# EAGLE library part FT231XS-R (library FT231XS-R)
FTDI Chip FT231XS-R, Interface RS232, RS422, RS485, SIE, UART 3MBd, 5 V, 20-pin, SSOP Source: Datasheet <https://datasheet.datasheetarchive.com/originals/distributors/Datasheets_SAMA/824938d1687833d6997706543241551a.pdf>
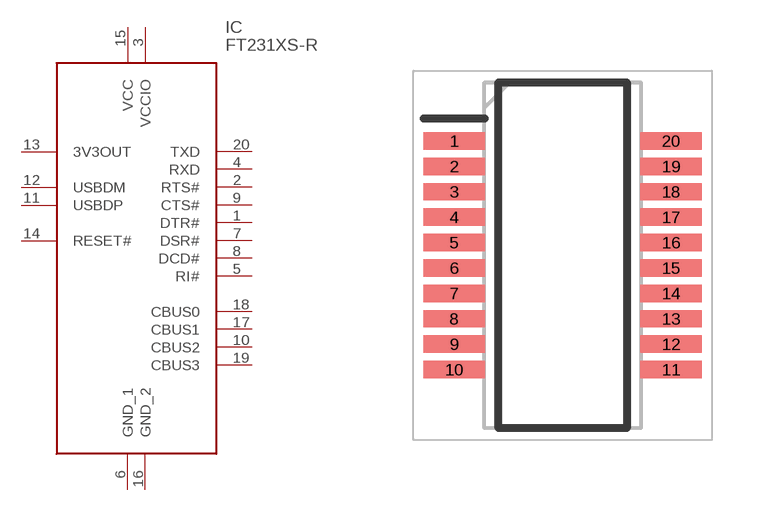
[diagram p0: symbol with the pads of SOP64P599X175-20N; footprint SOP64P599X175-20N]

Designator prefix IC

## FT231XS-R (Description: FTDI Chip FT231XS-R, Interface RS232, RS422, RS485, SIE, UART 3MBd, 5 V, 20-pin, SSOP; Height: 1.753mm; Manufacturer_Name: FTDI Chip; Manufacturer_Part_Number: FT231XS-R; Mouser_Part_Number: 895-FT231XS-R; Mouser_Price-Stock: https://www.mouser.co.uk/ProductDetail/FTDI/FT231XS-R?qs=Gp1Yz1mis3WduRPsgrTbtg%3D%3D)  [SOP64P599X175-20N]
1  DTR#
2  RTS#
3  VCCIO
4  RXD
5  RI#
6  GND_1
7  DSR#
8  DCD#
9  CTS#
10  CBUS2
11  USBDP
12  USBDM
13  3V3OUT
14  RESET#
15  VCC
16  GND_2
17  CBUS1
18  CBUS0
19  CBUS3
20  TXD

## Footprint SOP64P599X175-20N (pad centres in mm)
SSOP-20
smd 1.526 x 0.435: 1 -2.712,2.858; 2 -2.712,2.222; 3 -2.712,1.588; 4 -2.712,0.952; 5 -2.712,0.318; 6 -2.712,-0.318; 7 -2.712,-0.952; 8 -2.712,-1.588; 9 -2.712,-2.222; 10 -2.712,-2.858; 11 2.712,-2.858; 12 2.712,-2.222; 13 2.712,-1.588; 14 2.712,-0.952; 15 2.712,-0.318; 16 2.712,0.318; 17 2.712,0.952; 18 2.712,1.588; 19 2.712,2.222; 20 2.712,2.858